# EAGLE library part SIM808 (library SIM808)
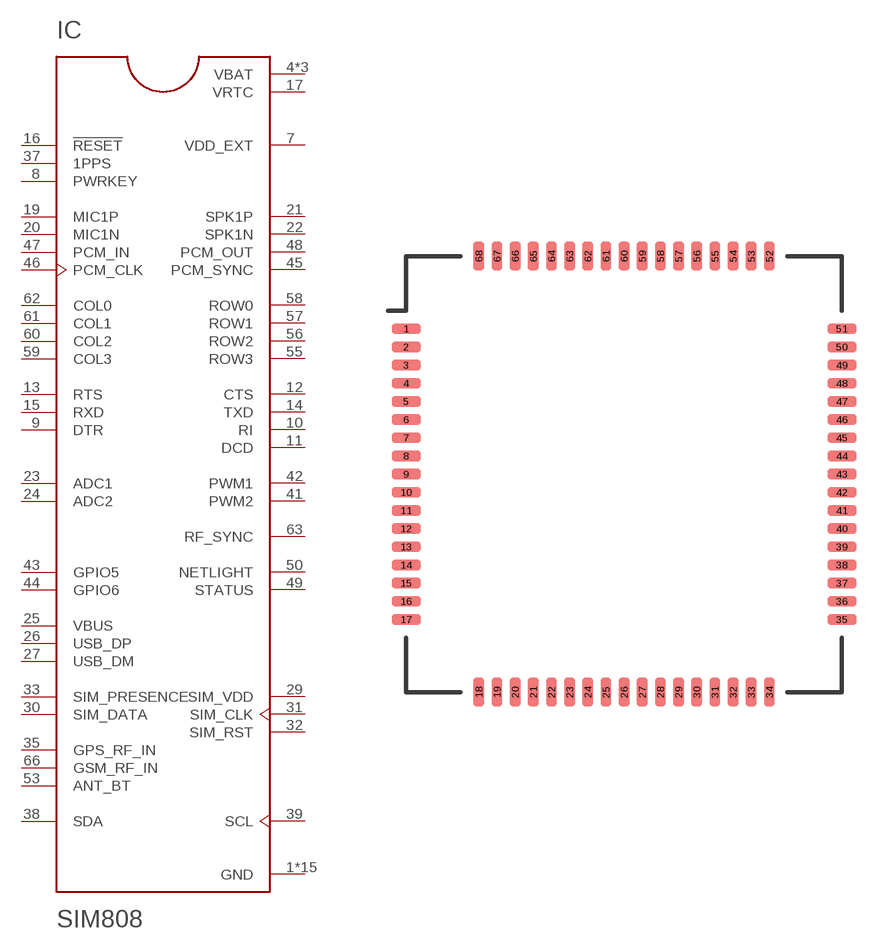
[diagram p0: symbol with the pads of QFN100P2400X2400X260-68N; footprint QFN100P2400X2400X260-68N]

Designator prefix IC

## SIM808 (Availability: Unavailable; Description: Module: GPS/GSM; GPRS; 2G; 1800MHz, 900MHz; GPIO, Serial, USB; SMD; MF: Simcom; MP: SIM808; Package: None; Price: 18.26 USD)  [QFN100P2400X2400X260-68N]
1  GND  pas
2  GND  pas
3  GND  pas
4  VBAT  pwr
5  VBAT  pwr
6  VBAT  pwr
7  VDD_EXT  out
8  PWRKEY  in
9  DTR  in
10  RI  out
11  DCD  out
12  CTS  out
13  RTS  in
14  TXD  out
15  RXD  in
16  !RESET  in
17  VRTC  pwr
18  GND  pas
19  MIC1P  in
20  MIC1N  in
21  SPK1P  out
22  SPK1N  out
23  ADC1  in
24  ADC2  in
25  VBUS  in
26  USB_DP
27  USB_DM
28  GND  pas
29  SIM_VDD  out
30  SIM_DATA
31  SIM_CLK  out
32  SIM_RST  out
33  SIM_PRESENCE  in
34  GND  pas
35  GPS_RF_IN  in
36  GND  pas
37  1PPS  in
38  SDA
39  SCL  out
40  GND  pas
41  PWM2  out
42  PWM1  out
43  GPIO5
44  GPIO6
45  PCM_SYNC  out
46  PCM_CLK  in
47  PCM_IN  in
48  PCM_OUT  out
49  STATUS  out
50  NETLIGHT  out
51  GND  pas
52  GND  pas
53  ANT_BT
54  GND  pas
55  ROW3  out
56  ROW2  out
57  ROW1  out
58  ROW0  out
59  COL3  in
60  COL2  in
61  COL1  in
62  COL0  in
63  RF_SYNC  out
64  GND  pas
65  GND  pas
66  GSM_RF_IN
67  GND  pas
68  GND  pas

## Footprint QFN100P2400X2400X260-68N (pad centres in mm)
smd 1.6 x 0.6: 1 -12,8; 2 -12,7; 3 -12,6; 4 -12,5; 5 -12,4; 6 -12,3; 7 -12,2; 8 -12,1; 9 -12,0; 10 -12,-1; 11 -12,-2; 12 -12,-3; 13 -12,-4; 14 -12,-5; 15 -12,-6; 16 -12,-7; 17 -12,-8; 35 12,-8; 36 12,-7; 37 12,-6; 38 12,-5; 39 12,-4; 40 12,-3; 41 12,-2; 42 12,-1; 43 12,0; 44 12,1; 45 12,2; 46 12,3; 47 12,4; 48 12,5; 49 12,6; 50 12,7; 51 12,8
smd 0.6 x 1.6: 18 -8,-12; 19 -7,-12; 20 -6,-12; 21 -5,-12; 22 -4,-12; 23 -3,-12; 24 -2,-12; 25 -1,-12; 26 0,-12; 27 1,-12; 28 2,-12; 29 3,-12; 30 4,-12; 31 5,-12; 32 6,-12; 33 7,-12; 34 8,-12; 52 8,12; 53 7,12; 54 6,12; 55 5,12; 56 4,12; 57 3,12; 58 2,12; 59 1,12; 60 0,12; 61 -1,12; 62 -2,12; 63 -3,12; 64 -4,12; 65 -5,12; 66 -6,12; 67 -7,12; 68 -8,12